# Altium footprint library Connector-Barrier.PcbLib: 2 footprints
Each footprint in its own frame and in the unit in brackets; x right, y up, seen from the top. Pads: shape width x height; smd on the part's side, far side on the other; paste and mask are expansions set on the pad; w line width, h text height; cw(c..) or ccw(c..) is an arc to the next point about the centre after c.
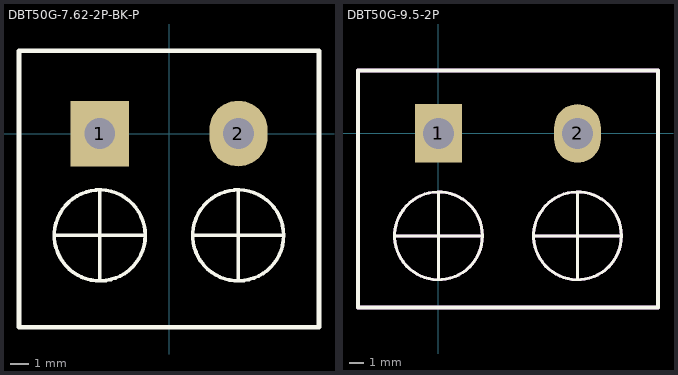
[diagram p0: the footprints below, top view; thin cyan lines are the x and y axes]

## DBT50G-7.62-2P-BK-P [mm] "DORABO(地博电气) DBT50G-7.62-2P-BK-P"
pads (2):
  rect 3.2x3.6 hole 1.7: 1(-3.81,0)
  oval 3.2x3.6 hole 1.7: 2(3.81,0)
Top Overlay:
  circle w0.2: c3.796,-5.6 r2.5
  circle w0.2: c-3.81,-5.6 r2.5
  circle w0.2: c3.796,-5.6 r2.5
  circle w0.2: c-3.81,-5.6 r2.5
  lines w0.2: -3.81,-7.907 -3.81,-8.1 -3.81,-7.907 ; -3.81,-7.907 -3.81,-3.1 -3.81,-7.907 ; 3.796,-7.907 3.796,-8.1 3.796,-7.907 ; 3.796,-7.907 3.796,-3.1 3.796,-7.907 ; -6.31,-5.6 -1.31,-5.6 -6.31,-5.6 ; 1.296,-5.6 6.296,-5.6 1.296,-5.6
  lines w0.254: -8.25,-10.65 8.24,-10.65 ; -8.25,-10.65 -8.25,4.55 ; -8.25,-10.65 8.24,-10.65 ; -8.25,-10.65 -8.25,4.55 ; -8.25,4.55 8.24,4.55 ; -8.25,4.55 8.24,4.55 ; 8.24,-10.65 8.24,4.55 ; 8.24,-10.65 8.24,4.55
Top Value:
  text "'.Comment'" at -6.264,-6.112 h3
Top Designator:
  text "'.Designator'" at -8.246,-5.868 h3
3D body "DBT50G-7.62-2P-BK-P.step": height 16.2, standoff -3.5, extent -8.38,-10.7 8.361,4.5

## DBT50G-9.5-2P [mm] "DORABO(地博电气) DBT50G-9.5-2P"
pads (2):
  rect 3.2x4 hole 2.1: 1(0,0)
  oval 3.2x4 hole 2.1: 2(9.5,0)
Top Overlay:
  circle w0.2: c0,-7 r3
  circle w0.2: c9.5,-7 r3
  lines w0.2: -3,-7 3,-7 ; 0,-10 0,-4 ; 6.5,-7 12.5,-7 ; 9.5,-10 9.5,-4
  lines w0.254: -5.5,-11.9 -5.5,4.3 15,4.3 15,-11.9 -5.5,-11.9
Top Value:
  text "'.Comment'" at -2.454,-6.112 h3
Top Designator:
  text "'.Designator'" at -4.436,-5.868 h3
Top Assembly (Mech20):
  circle w0.2: c0,-7 r3
  circle w0.2: c9.5,-7 r3
  lines w0.2: -3,-7 3,-7 ; 0,-10 0,-4 ; 6.5,-7 12.5,-7 ; 9.5,-10 9.5,-4
  lines w0.254: -5.5,-11.9 -5.5,4.3 15,4.3 15,-11.9 -5.5,-11.9
3D body "DBT50G-9.5-2P.step": height 16.5, standoff -5, extent -5.5,-11.7 15.001,4.3